# Altium integrated library 2 Pin Terminal Block HDR 5MM THT RA _OQ0271510000G.IntLib: 1 symbol
Pins are listed as number, name and electrical type; pins without a type are passive.

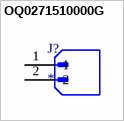
[diagram p0: symbol OQ0271510000G]

## OQ0271510000G
designator J?
2 Position Terminal Block Header, Male Pins, Shrouded (4 Side) 0.197 (5.00mm) 90Â°, Right Angle - Through Hole; MF: Amphenol Anytek; MP: OQ0271510000G; SnapEDA_Link: https://www.snapeda.com/parts/OQ0271510000G/Amphenol/view-part/?ref=snap; Package: None; Value: *; Check_prices: https://www.snapeda.com/parts/OQ0271510000G/Amphenol/view-part/?ref=eda
footprint AMPHENOL_OQ0271510000G
pins: 1, 2